# Altium schematic symbol library Crystal.SchLib: 7 symbols
Pins are listed as number, name and electrical type; pins without a type are passive.

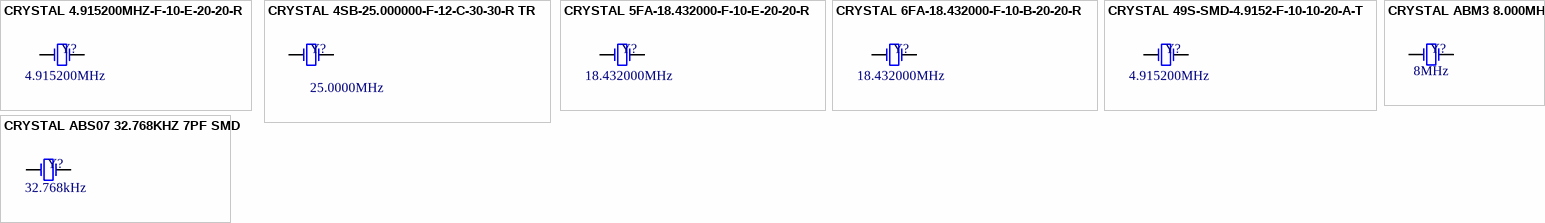
[diagram p0: symbols CRYSTAL 4.915200MHZ-F-10-E-20-20-R to CRYSTAL ABS07 32.768KHZ 7PF SMD]

## CRYSTAL 4.915200MHZ-F-10-E-20-20-R
designator Y?  value 4.915200MHz  (hidden comment: CRYSTAL 4.915200MHZ-F-10-E-20-20-R)
MANUFACTURER: HOSONIC; ERPCODE: 0018369; PACKING: TR; PN: SB-4.915200-F-10-E-20-20-R; PACKAGE: SMD; TYPE: Cristal SMD
footprint HC-49SMA (SURFACE MOUNT CRYSTAL)
pins: 1 OSC1, 2 OSC2

## CRYSTAL 4SB-25.000000-F-12-C-30-30-R TR
designator Y?, comment 25.0000MHz
CRYSTAL 4SB-25.000000-F-12-C-30-30-R TR
footprint HCX-4SB (Cristal de Quartzo em SMD)
pins: 1 OSC1, 3 OSC2

## CRYSTAL 5FA-18.432000-F-10-E-20-20-R
designator Y?  value 18.432000MHz  (hidden comment: CRYSTAL 5FA-18.432000-F-10-E-20-20-R)
MANUFACTURER: SHOULDER; ERPCODE: 0023370; PACKING: TR; PACKAGE: SMD; TYPE: Cristal SMD; PN: 5FA-18.432000-F-10-E-20-20-R
footprint HCX-5FA (SURFACE MOUNT CRYSTAL)
pins: 1 OSC1, 2 OSC2

## CRYSTAL 6FA-18.432000-F-10-B-20-20-R
designator Y?  value 18.432000MHz  (hidden comment: CRYSTAL 6FA-18.432000-F-10-B-20-20-R)
MANUFACTURER: HOSONIC; ERPCODE: 0018367; PACKING: TR; PACKAGE: SMD; TYPE: Cristal SMD; PN: 6FA-18.432000-F-10-B-20-20-R
footprint HCX-6FA (SURFACE MOUNT CRYSTAL)
pins: 1 OSC1, 2 OSC2

## CRYSTAL 49S-SMD-4.9152-F-10-10-20-A-T
designator Y?  value 4.915200MHz  (hidden comment: CRYSTAL 49S-SMD-4.9152-F-10-10-20-A-T)
MANUFACTURER: SHOULDER; ERPCODE: 0032009; PACKING: TR; PACKAGE: SMD; TYPE: Cristal SMD; PN: 49S-SMD-4.9152-F-10-10-20-A-T
footprint HC-49SB (LOW PROFILE HOLDER TYPE CRYSTAL UNITS)
pins: 1 OSC1, 2 OSC2

## CRYSTAL ABM3 8.000MHZ
designator Y?, comment 8MHz
8MHz ±20ppm Crystal 18pF 140 Ohm -40°C ~ 85°C Surface Mount 2-SMD, No Lead; Supplier 1: Digi-Key; Supplier 2: Farnell; Supplier 3: Farnell; Supplier 4: Digi-Key; Supplier 5: Newark; Supplier 6: Farnell; Supplier 7: Newark; Supplier 8: Digi-Key; Supplier 9: Farnell; Supplier 10: Newark; Supplier Part Number 1: 535-10630-2-ND; Supplier Part Number 2: 2367927; Supplier Part Number 3: 2101329RL; Supplier Part Number 4: 535-10630-1-ND; Supplier Part Number 5: 06X4672; Supplier Part Number 6: 2101329; Supplier Part Number 7: 76R7536; Supplier Part Number 8: 535-10630-6-ND; Supplier Part Number 9: 2101337; Supplier Part Number 10: 77R1485; VALUE: 8MHz
footprint ABM3 (MINIATURE CERAMIC SMD CRYSTAL)
pins: 1 OSC1, 2 OSC2

## CRYSTAL ABS07 32.768KHZ 7PF SMD
designator Y?, comment 32.768kHz
32.768kHz ±10ppm Crystal 7pF 70 kOhm -40°C ~ 85°C Surface Mount 2-SMD, No Lead; Supplier 1: Newark; Supplier 2: Newark; Supplier 3: Newark; Supplier 4: Newark; Supplier 5: Newark; Supplier 6: Newark; Supplier 7: Newark; Supplier 8: Farnell; Supplier 9: Newark; Supplier 10: Farnell; Supplier 11: Farnell; Supplier 12: Farnell; Supplier 13: Farnell; Supplier 14: Farnell; Supplier 15: Farnell; Supplier 16: Farnell; Supplier 17: Farnell; Supplier 18: Newark; Supplier 19: Digi-Key; Supplier 20: Digi-Key; Supplier 21: Digi-Key; Supplier 22: Farnell; Supplier 23: Newark; Supplier Part Number 1: 29T5955; Supplier Part Number 2: 14N8749; Supplier Part Number 3: 52T7220; Supplier Part Number 4: 52T7212; Supplier Part Number 5: 52T7214; Supplier Part Number 6: 41M1655; Supplier Part Number 7: 89M4970; Supplier Part Number 8: 2101346; Supplier Part Number 9: 89M4971; Supplier Part Number 10: 2467865; Supplier Part Number 11: 2467866; Supplier Part Number 12: 2101356; Supplier Part Number 13: 2673023; Supplier Part Number 14: 1457182; Supplier Part Number 15: 2061722; Supplier Part Number 16: 2370018; Supplier Part Number 17: 1838935; Supplier Part Number 18: 14N8750; Supplier Part Number 19: 535-13478-2-ND; Supplier Part Number 20: 535-13478-1-ND; Supplier Part Number 21: 535-13478-6-ND; Supplier Part Number 22: 2101347; Supplier Part Number 23: 14N8751; VALUE: 32.768kHz
footprint ABS07 (MINIATURE CERAMIC SMD CRYSTAL)
pins: 1 OSC1, 2 OSC2